# Altium footprint library asib.PcbLib: 7 footprints
Each footprint in its own frame and in the unit in brackets; x right, y up, seen from the top. Pads: shape width x height; smd on the part's side, far side on the other; paste and mask are expansions set on the pad; w line width, h text height; cw(c..) or ccw(c..) is an arc to the next point about the centre after c.
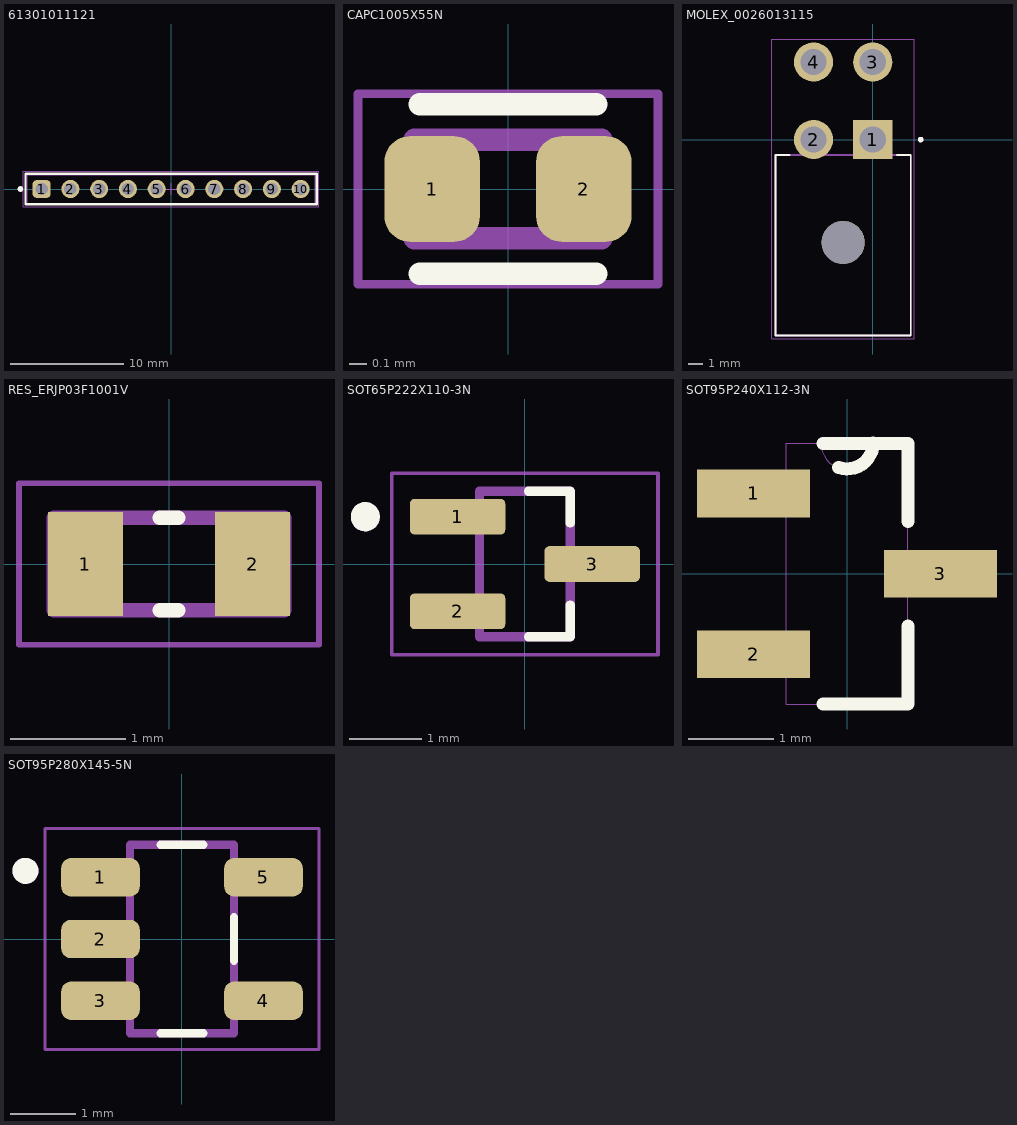
[diagram p0: the footprints below, top view; thin cyan lines are the x and y axes]

## 61301011121 [mm] "Pin Header, pitch 2.54 mm, THT, Vertical, single row, 10p"
height 8.54
pads (10):
  rrect50% 1.6x1.6 hole 1.1: 1(-11.43,0)
  round 1.6 hole 1.1: 2(-8.89,0) 3(-6.35,0) 4(-3.81,0) 5(-1.27,0) 6(1.27,0) 7(3.81,0) 8(6.35,0) 9(8.89,0) 10(11.43,0)
Top Overlay:
  circle w0.25: c-13.3,0 r0.125
  lines w0.2: -12.85,-1.345 12.85,-1.345 12.85,1.345 -12.85,1.345 -12.85,-1.345
Top Designator:
  text ".Designator" at -7.498,-0.5 h1.5
Top Component Outline:
  lines w0.1: -12.7,-1.27 -12.7,1.27 12.7,1.27 12.7,-1.27 -12.7,-1.27
Top Courtyard:
  lines w0.05: -13.05,-1.545 -13.05,1.545 13.05,1.545 13.05,-1.545 -13.05,-1.545
Top Component Center:
  lines w0.05: -0.5,0 0.5,0 ; 0,-0.5 0,0.5
3D body "61301011121.stp": height 8.57, standoff -2.97, extent -12.7,-1.27 12.7,1.27

## CAPC1005X55N [mm]
pads (2):
  rrect53% 0.54x0.6 smd: 1(-0.43,0) 2(0.43,0)
Top Overlay:
  lines w0.127: -0.5,-0.48 0.5,-0.48 ; -0.5,0.48 0.5,0.48
Top 3D Body:
  lines w0.127: -0.53,-0.28 0.53,-0.28 0.53,0.28 -0.53,0.28 -0.53,-0.28
Top Courtyard:
  lines w0.05: -0.85,-0.54 0.85,-0.54 0.85,0.54 -0.85,0.54 -0.85,-0.54

## MOLEX_0026013115 [mm]
pads (5):
  rect 2.775x2.775 hole 1.85: 1(0,0)
  round 2.775 hole 1.85: 2(-4.2,0) 3(0,5.5) 4(-4.2,5.5)
  round 3.05 hole 3.05 unplated: ""(-2.1,-7.3)
Top Overlay:
  circle w0.2: c3.4,0 r0.1
  lines w0.127: -5.91,-1.1 -6.9,-1.1 -6.9,-13.9 2.7,-13.9 2.7,-1.1 1.71,-1.1
Top 3D Body:
  circle w0.2: c3.4,0 r0.1
  lines w0.127: -6.9,-13.9 2.7,-13.9 2.7,-1.1 -6.9,-1.1 -6.9,-13.9
Top Courtyard:
  lines w0.05: -7.15,-14.15 2.95,-14.15 2.95,7.14 -7.15,7.14 -7.15,-14.15

## RES_ERJP03F1001V [mm]
pads (2):
  rect 0.65x0.9 smd: 1(-0.725,0) 2(0.725,0)
Top Overlay:
  lines w0.127: -0.08,-0.4 0.08,-0.4 ; -0.08,0.4 0.08,0.4
Top 3D Body:
  lines w0.127: -1,-0.4 1,-0.4 1,0.4 -1,0.4 -1,-0.4
Top Courtyard:
  lines w0.05: -1.3,-0.7 1.3,-0.7 1.3,0.7 -1.3,0.7 -1.3,-0.7

## SOT65P222X110-3N [mm]
height 0.95
pads (3):
  rrect25% 1.31x0.49 smd: 1(-0.925,0.65) 2(-0.925,-0.65) 3(0.925,0)
Top Overlay:
  circle w0.2: c-2.195,0.65 r0.1
  lines w0.127: 0.05,-1 0.625,-1 0.625,-0.565 ; 0.05,1 0.625,1 0.625,0.565
Top 3D Body:
  circle w0.2: c-2.195,0.65 r0.1
  lines w0.127: -0.625,-1 0.625,-1 0.625,1 -0.625,1 -0.625,-1
Top Courtyard:
  lines w0.05: -1.83,-1.25 1.83,-1.25 1.83,1.25 -1.83,1.25 -1.83,-1.25
3D body "step_temp.STEP": height 1.1, standoff 0, extent -1.05,-1.075 1.05,1.075

## SOT95P240X112-3N [mil]
pads (3):
  rect 52x22 smd: 1(-43,37) 2(-43,-37) 3(43,0)
Top Overlay:
  lines w6: -11,-60 28,-60 28,-24 ; -11,60 12,60 28,60 28,24 ; -3.9,48.96 ccw(c0.15,60.1) 12,60.1
Top 3D Body:
  lines w0: -28,-47 -28,-60 28,-60 28,-10 ; -28,-47 -28,-28 ; -28,-47 -52,-47 -52,-28 -28,-28 ; -28,-28 -28,28 ; -28,28 -28,47 ; -28,28 -52,28 -52,47 -28,47 ; -28,47 -28,60 -12,60 ; -12,60 ccw(c0,60) 12,60 ; -12,60 12,60 ; 12,60 28,60 28,10 ; 28,-10 28,10 ; 28,-10 52,-10 52,10 28,10

## SOT95P280X145-5N [mm]
pads (5):
  rrect50% 1.21x0.59 smd: 1(-1.255,0.95) 2(-1.255,0) 3(-1.255,-0.95) 4(1.255,-0.95) 5(1.255,0.95)
Top Overlay:
  circle w0.2: c-2.41,1.05 r0.1
  lines w0.127: -0.33,-1.45 0.33,-1.45 ; -0.33,1.45 0.33,1.45 ; 0.8,-0.335 0.8,0.335
Top 3D Body:
  circle w0.2: c-2.41,1.05 r0.1
  lines w0.127: -0.8,-1.45 -0.8,1.45 0.8,1.45 0.8,-1.45 -0.8,-1.45
Top Courtyard:
  lines w0.05: -2.11,-1.7 2.11,-1.7 2.11,1.7 -2.11,1.7 -2.11,-1.7